# Altium integrated library TTP223-BA6.IntLib: 1 symbol
Pins are listed as number, name and electrical type; pins without a type are passive.

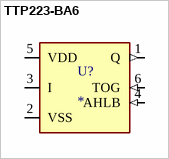
[diagram p0: symbol TTP223-BA6]

## TTP223-BA6
designator U?
<b>DÃ©tecteur</b> de Touches Tactiles IC<p> Doc constructeur <a href="http://geii/magasin/pdf/TTP223-BA6.pdf" title="Enlarge picture"> <img src="http://geii/magasin/images/pdf.jpg"></a><p> <b>GEII/IUT ANGERS</b>; MF: tontek; Value: *; SnapEDA_Link: https://www.snapeda.com/parts/TTP223-BA6/TONTEK/view-part/?ref=snap; Price: None; Availability: Not in stock; Package: None; MP: TTP223-BA6; Check_prices: https://www.snapeda.com/parts/TTP223-BA6/TONTEK/view-part/?ref=eda
footprint SOT23-6
pins: 1 Q (out), 2 VSS (power), 3 I (io), 4 AHLB (in), 5 VDD (power), 6 TOG (in)